# Altium footprint library Header.PcbLib: 2 footprints
Each footprint in its own frame and in the unit in brackets; x right, y up, seen from the top. Pads: shape width x height; smd on the part's side, far side on the other; paste and mask are expansions set on the pad; w line width, h text height; cw(c..) or ccw(c..) is an arc to the next point about the centre after c.
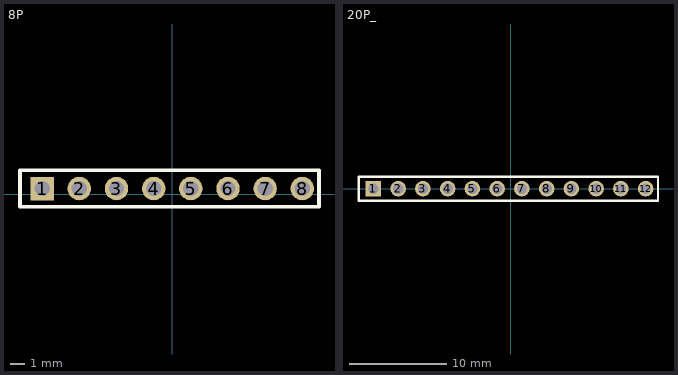
[diagram p0: the footprints below, top view; thin cyan lines are the x and y axes]

## 8P [mm]
pads (8):
  rect 1.6x1.6 hole 1.05: 1(-8.89,0.381)
  round 1.6 hole 1.05: 2(-6.35,0.381) 3(-3.81,0.381) 4(-1.27,0.381) 5(1.27,0.381) 6(3.81,0.381) 7(6.35,0.381) 8(8.89,0.381)
Top Overlay:
  lines w0.254: -10.41,-0.869 10.033,-0.869 10.033,0.01 10.033,1.631 -10.41,1.631 -10.41,-0.869
Mechanical 15:
  region: -10.354,-0.889 -10.354,-0.864 -10.389,-0.829 -10.439,-0.829 -10.474,-0.864 -10.474,-0.889 -10.474,-0.914 -10.439,-0.949 -10.389,-0.949 -10.354,-0.914 -10.354,-0.889
  lines w0.051: -10.414,-0.889 -10.414,1.651
3D body "PinHeader_1x08_P2.54mm_Horizontal_SMD_Right.step": height 8.6, standoff -2.9, extent -10.267,-0.889 10.013,1.611

## 20P_ [mm]
pads (12):
  rect 1.6x1.6 hole 1.05: 1(-14.097,0)
  round 1.6 hole 1.05: 2(-11.557,0) 3(-9.017,0) 4(-6.477,0) 5(-3.937,0) 6(-1.397,0) 7(1.143,0) 8(3.683,0) 9(6.223,0) 10(8.763,0) 11(11.303,0) 12(13.843,0)
Top Overlay:
  lines w0.254: -15.617,-1.25 -15.617,1.25 14.859,1.25 15.113,1.25 15.113,-0.371 15.113,-1.25 -15.617,-1.25
Mechanical 15:
  region: -14.417,0.32 -13.777,0.32 -13.777,-0.32 -14.417,-0.32
  region: -11.877,0.32 -11.237,0.32 -11.237,-0.32 -11.877,-0.32
  region: -9.337,0.32 -8.697,0.32 -8.697,-0.32 -9.337,-0.32
  region: -6.797,0.32 -6.157,0.32 -6.157,-0.32 -6.797,-0.32
  region: -4.257,0.32 -3.617,0.32 -3.617,-0.32 -4.257,-0.32
  region: -1.717,0.32 -1.077,0.32 -1.077,-0.32 -1.717,-0.32
  region: 0.823,0.32 1.463,0.32 1.463,-0.32 0.823,-0.32
  region: 3.363,0.32 4.003,0.32 4.003,-0.32 3.363,-0.32
  region: 5.903,0.32 6.543,0.32 6.543,-0.32 5.903,-0.32
  region: 8.443,0.32 9.083,0.32 9.083,-0.32 8.443,-0.32
  region: 10.983,0.32 11.623,0.32 11.623,-0.32 10.983,-0.32
  region: 13.523,0.32 14.163,0.32 14.163,-0.32 13.523,-0.32
  region: -15.561,-1.27 -15.561,-1.245 -15.596,-1.21 -15.646,-1.21 -15.681,-1.245 -15.681,-1.27 -15.681,-1.295 -15.646,-1.33 -15.596,-1.33 -15.561,-1.295 -15.561,-1.27
  lines w0.051: -15.621,-1.27 -15.621,1.27
3D body "PinHeader_1x12_P2.54mm_Horizontal_SMD_Right.step": height 8.61, standoff -2.89, extent -15.708,-1.27 14.732,1.23